# EAGLE library part STP08DP05 (library NicksParts)
Low voltage 8-bit constant current LED sink with full outputs error detection. Up to 20V and 100mA of current per LED
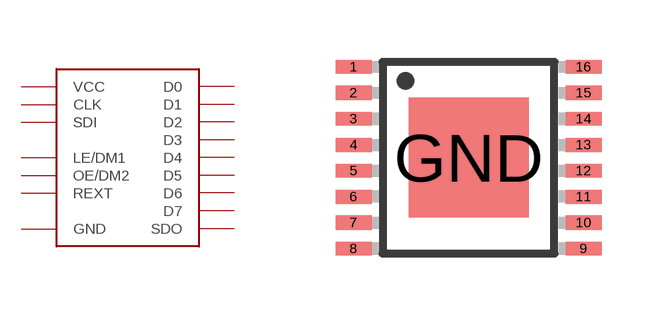
[diagram p17: symbol with the pads of SSOP16_EPAD; footprint SSOP16_EPAD]

Designator prefix U

## STP08DP05  [SSOP16_EPAD]
1  GND
2  SDI
3  CLK
4  LE/DM1
5  D0
6  D1
7  D2
8  D3
9  D4
10  D5
11  D6
12  D7
13  OE/DM2
14  SDO
15  REXT
16  VCC
GND  GND

## Footprint SSOP16_EPAD (pad centres in mm)
smd 0.9 x 0.35: 1 -2.875,2.275; 2 -2.875,1.625; 3 -2.875,0.975; 4 -2.875,0.325; 5 -2.875,-0.325; 6 -2.875,-0.975; 7 -2.875,-1.625; 8 -2.875,-2.275; 9 2.875,-2.275; 10 2.875,-1.625; 11 2.875,-0.975; 12 2.875,-0.325; 13 2.875,0.325; 14 2.875,0.975; 15 2.875,1.625; 16 2.875,2.275
smd 3 x 3: GND 0,0